# Altium schematic symbol library SnapEDAsch.SchLib: 1 symbol
Pins are listed as number, name and electrical type; pins without a type are passive.

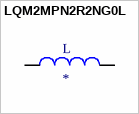
[diagram p0: symbol LQM2MPN2R2NG0L]

## LQM2MPN2R2NG0L
designator L
Inductor with Inductance: 2.2uH Tol. +/-30%, Package: 0806 _2016_; MP: LQM2MPN2R2NG0L; MF: Murata Electronics; SnapEDA_Link: https://www.snapeda.com/parts/LQM2MPN2R2NG0L/Murata%20Electronics%20North%20America/view-part/1522850/?ref=snap; Digi-Key_Purchase_URL: https://www.digikey.co.nz/product-detail/en/murata-electronics/LQM2MPN2R2NG0L/490-7786-1-ND/4357989?utm_source=snapeda&utm_medium=aggregator&utm_campaign=symbol; Package: 2016 Murata; Value: *; Digi-Key_Part_Number: 490-7786-1-ND
footprint INDC2016X100N
pins: 1, 2